# Altium integrated library LM317T.IntLib: 1 symbol
Pins are listed as number, name and electrical type; pins without a type are passive.

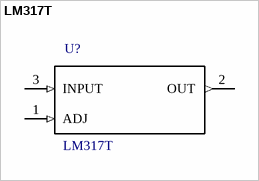
[diagram p0: symbol LM317T]

## LM317T
designator U?
MF: Texas Instruments; Package: TO-220-3 HTC Korea; MP: LM317T; SnapEDA_Link: https://www.snapeda.com/parts/LM317T/Texas%20Instruments/view-part/?ref=snap; Price: None; Availability: Unavailable; Value: *
footprint TO254P460X1020X1945-3P
pins: 1 ADJ (in), 2 OUT (out), 3 INPUT (in)